# Altium footprint library Capacitor.PcbLib: 38 footprints (part 2 of 3)
Each footprint in its own frame and in the unit in brackets; x right, y up, seen from the top. Pads: shape width x height; smd on the part's side, far side on the other; paste and mask are expansions set on the pad; w line width, h text height; cw(c..) or ccw(c..) is an arc to the next point about the centre after c.
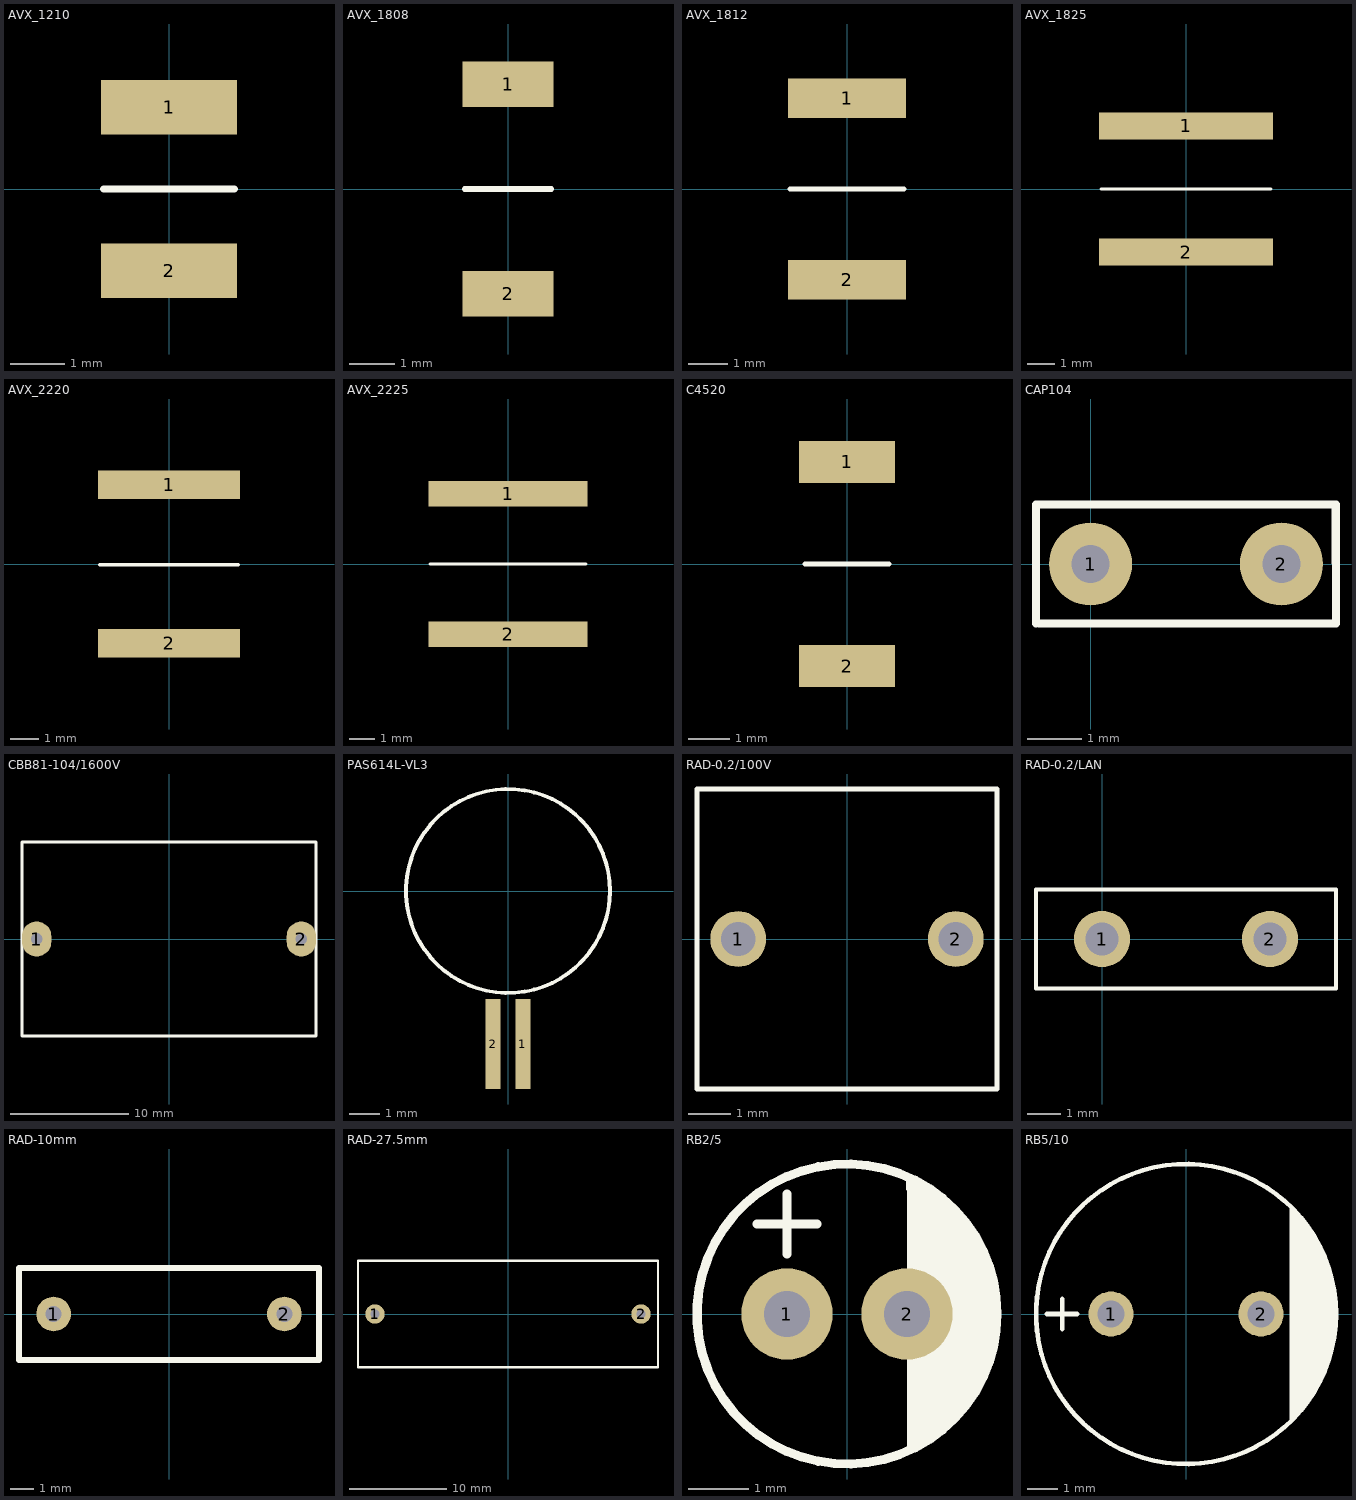
[diagram p1: the footprints below, top view; thin cyan lines are the x and y axes]

## AVX_1210 [mm]
pads (2):
  rect 2.5x1 smd: 1(0,1.5) 2(0,-1.5)
Top Overlay:
  lines w0.127: -1.2,0 1.2,0

## AVX_1808 [mm]
pads (2):
  rect 2x1 smd: 1(0,2.3) 2(0,-2.3)
Top Overlay:
  lines w0.127: -0.95,0 0.95,0

## AVX_1812 [mm]
pads (2):
  rect 3x1 smd: 1(0,2.3) 2(0,-2.3)
Top Overlay:
  lines w0.127: -1.45,0 1.45,0

## AVX_1825 [mm]
pads (2):
  rect 6.35x1 smd: 1(0,2.3) 2(0,-2.3)
Top Overlay:
  lines w0.127: -3.1,0 3.1,0

## AVX_2220 [mm]
pads (2):
  rect 5x1 smd: 1(0,2.8) 2(0,-2.8)
Top Overlay:
  lines w0.127: -2.45,-0.025 2.45,-0.025

## AVX_2225 [mm]
pads (2):
  rect 6.35x1 smd: 1(0,2.8) 2(0,-2.8)
Top Overlay:
  lines w0.127: -3.1,0 3.1,0

## C4520 [mm] "C4520 Serial TDK"
height 1.3
pads (2):
  rect 2.3x1 smd: 1(0,2.45) 2(0,-2.45)
Top Overlay:
  lines w0.127: -1,0 1,0

## CAP104 [mil] "104/3/2 cap footprint"
pads (2):
  round 60 hole 27.56: 1(0,0) 2(137.8,0)
Top Overlay:
  lines w6: -39.37,-43 -39.37,43 0,43 177.17,43 ; -37,-43 177.17,-43 177,43

## CBB81-104/1600V [mm] "CBB81 0.1uF 1600VDC"
height 24.5
pads (2):
  oval 2.5x3 hole 1: 1(-11.25,0) 2(11.25,0)
Top Overlay:
  lines w0.254: -12.5,-8.25 -12.5,8.25 12.5,8.25 12.5,-8.25 -12.5,-8.25

## PAS614L-VL3 [mm] "SHOIE POLYACENE CAPACITOR"
height 1.8
pads (2):
  rect 0.5x3 smd: 1(0.5,-5.1) 2(-0.5,-5.1)
Top Overlay:
  circle w0.127: c0,0 r3.4

## RAD-0.2/100V [mm] "100V"
height 10
pads (2):
  round 1.3 hole 0.8: 1(-2.54,0) 2(2.54,0)
Top Overlay:
  lines w0.127: -3.5,-3.5 3.5,-3.5 3.5,3.5 -3.5,3.5 -3.5,-3.5

## RAD-0.2/LAN [mm] "FOR PITCH 5.08mm"
pads (2):
  round 1.7 hole 1: 1(0,0) 2(5.08,0)
Top Overlay:
  lines w0.127: -2,-1.5 -2,1.5 7.08,1.5 7.08,-1.5 -2,-1.5

## RAD-10mm [mm] "Y2 capacitor,MKP series"
height 9
pads (2):
  round 1.5 hole 0.7: 1(-5,0) 2(5,0)
Top Overlay:
  lines w0.254: -6.5,-2 -6.5,2 6.5,2 6.5,-2 -6.5,-2

## RAD-27.5mm [mm] "X2 capacitor,MKP336 2 X2 series"
height 21
pads (2):
  round 2 hole 0.9: 1(-13.75,0) 2(13.75,0)
Top Overlay:
  lines w0.254: -15.5,-5.5 15.5,-5.5 15.5,5.5 -15.5,5.5 -15.5,-5.5

## RB2/5 [mil] "铝电解电容"
height 433.07
pads (2):
  round 60 hole 30: 1(-39.37,0) 2(39.37,0)
Top Overlay:
  circle w5.98: c0,0 r98.43
  rectangle: 87.01,-32.01 96.06,32.01
  rectangle: 70,-46 88,46
  rectangle: 54,-68 72,68
  rectangle: 39.37,-83 55,81
  region: 39,89 39,81.37 39.37,81 53,81 54,80
  region: 55,81 54,80 54,68 72,68
  region: 70,46 88,46 88,47 72,63 72,68
  region: 87.01,32.01 96.06,32.01 88,40.07 88,46
  region: 87.01,-32.01 88,-33 88,-40.07 96.06,-32.01
  region: 70,-46 70,-67 88,-49 88,-46
  region: 54,-68 54,-82 55,-83 70,-68
  region: 39.37,-83 39.37,-90.63 47,-83
  lines w5.98: -59.06,59.06 -19.68,59.06 ; -39.37,39.37 -39.37,78.74

## RB5/10 [mm] "铝电解电容"
height 12
pads (2):
  round 1.5 hole 0.9: 1(-2.5,0) 2(2.5,0)
Top Overlay:
  circle w0.152: c0,0 r5
  rectangle: 3.454,-2.769 4.191,2.692
  rectangle: 4.089,-1.829 4.674,1.854
  rectangle: 4.547,-1.118 4.928,1.143
  region: 3.454,2.692 4.191,2.692 4.191,2.845 3.454,3.581
  region: 4.191,2.692 4.089,2.591 4.089,1.854 4.674,1.854
  region: 4.674,1.6 4.547,1.473 4.547,1.143 4.928,1.143
  region: 3.454,-2.769 4.191,-2.769 4.191,-2.794 3.454,-3.531
  region: 4.674,-1.829 4.089,-1.829 4.089,-2.667 4.191,-2.769
  region: 4.547,-1.118 4.674,-1.245 4.674,-1.575 4.699,-1.575 4.775,-1.499 4.775,-1.27 4.928,-1.118
  lines w0.152: -4.632,0 -3.632,0 ; -4.132,-0.5 -4.132,0.5